# EAGLE library part CD4093BEE4 (library CD4093BEE4)
IC GATE NAND 4CH 2-INP 14DIP Source: Datasheet <http://www.ti.com/general/docs/suppproductinfo.tsp?distId=10&gotoUrl=http://www.ti.com/lit/gpn/cd4093b>
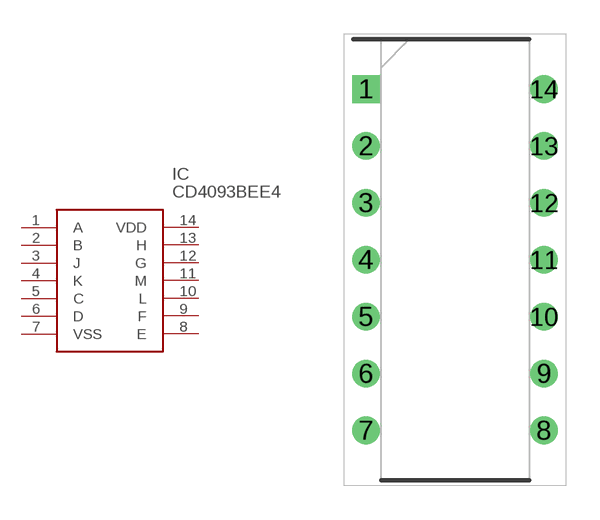
[diagram p0: symbol with the pads of DIP794W53P254L1930H508Q14N; footprint DIP794W53P254L1930H508Q14N]

Designator prefix IC

## CD4093BEE4 (Description: IC GATE NAND 4CH 2-INP 14DIP; Height: 5.08mm; Manufacturer_Name: Texas Instruments; Manufacturer_Part_Number: CD4093BEE4; Mouser_Part_Number: 595-CD4093BEE4; Mouser_Price-Stock: https://www.mouser.co.uk/ProductDetail/Texas-Instruments/CD4093BEE4?qs=LSR%252BNeaw%2FwC39NlVGrbLWQ%3D%3D)  [DIP794W53P254L1930H508Q14N]
1  A
2  B
3  J
4  K
5  C
6  D
7  VSS
8  E
9  F
10  L
11  M
12  G
13  H
14  VDD

## Footprint DIP794W53P254L1930H508Q14N (pad centres in mm)
N (R-PDIP-T14)
drill 0.73 pad 1.13 square: 1 -3.97,7.62
drill 0.73 pad 1.13: 2 -3.97,5.08; 3 -3.97,2.54; 4 -3.97,0; 5 -3.97,-2.54; 6 -3.97,-5.08; 7 -3.97,-7.62; 8 3.97,-7.62; 9 3.97,-5.08; 10 3.97,-2.54; 11 3.97,0; 12 3.97,2.54; 13 3.97,5.08; 14 3.97,7.62